# Altium schematic symbol library LED_MATRIX_8X16_MONO_R1.SchLib: 10 symbols
Pins are listed as number, name and electrical type; pins without a type are passive.

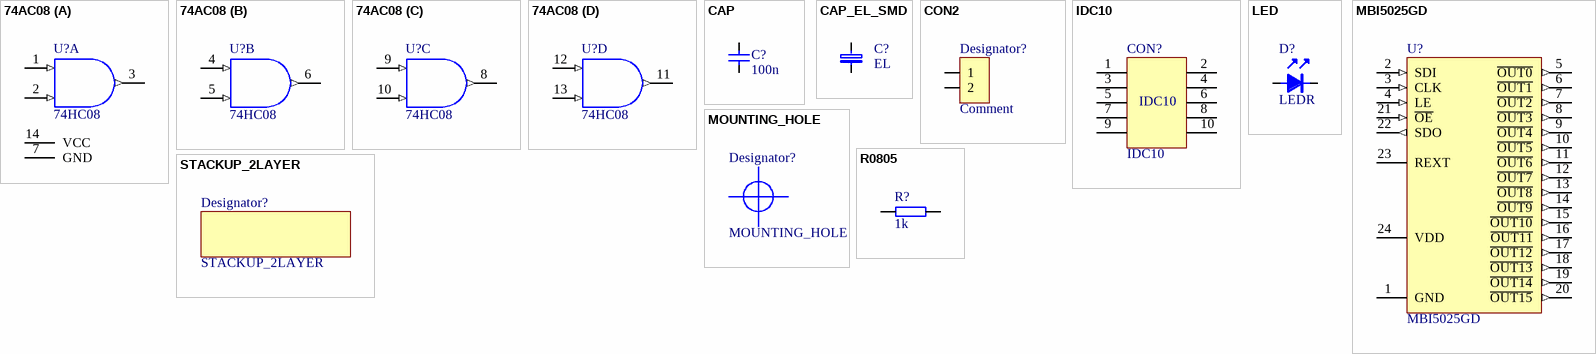
[diagram p0: symbols 74AC08 to STACKUP_2LAYER]

## 74AC08
designator U?, comment 74HC08
Quadruple 2-Input Positive-AND Gate
footprint SO14
footprint SO-14 (Footprint not found)
part A pins: 1 A (in), 2 B (in), 3 Y (out), 7 GND (power), 14 VCC (power)
part B pins: 4 A (in), 5 B (in), 6 Y (out)
part C pins: 8 Y (out), 9 A (in), 10 B (in)
part D pins: 11 Y (out), 12 A (in), 13 B (in)
2 alternate drawings of the same symbol

## CAP
designator C?, comment 100n
footprint 1206
footprint 0805
footprint 0603
footprint 0402
pins: 1, 2

## CAP_EL_SMD
designator C?, comment EL
KONDENSATOR ELEKTROLITYCZNY SMD
footprint CAP_POL_R3.5MM
pins: 1, 2
2 alternate drawings of the same symbol

## CON2
designator Designator?, comment Comment
Connector
footprint SIP2
footprint WAGO2X2-5
pins: 1, 2

## IDC10
designator CON?
footprint IDC10
pins: 1, 2, 3, 4, 5, 6, 7, 8, 9, 10

## LED
designator D?, comment LEDR
footprint 1206D
footprint 0805D
footprint LED_MTX
pins: 1, 2

## MBI5025GD
designator U?
16-channel Constant Current LED Sink Driver
footprint SOP24
pins: 1 GND (power), 2 SDI (in), 3 CLK (in), 4 LE (in), 5 ~{OUT0} (out), 6 ~{OUT1} (out), 7 ~{OUT2} (out), 8 ~{OUT3} (out), 9 ~{OUT4} (out), 10 ~{OUT5} (out), 11 ~{OUT6} (out), 12 ~{OUT7} (out), 13 ~{OUT8} (out), 14 ~{OUT9} (out), 15 ~{OUT10} (out), 16 ~{OUT11} (out), 17 ~{OUT12} (out), 18 ~{OUT13} (out), 19 ~{OUT14} (out), 20 ~{OUT15} (out), 21 ~{OE} (in), 22 SDO (out), 23 REXT, 24 VDD (power)

## MOUNTING_HOLE
designator Designator?
Mounting Hole
footprint MH_3.3-2L
footprint MH_3.2-2L
footprint MH_3.2
2 alternate drawings of the same symbol

## R0805
designator R?, comment 1k
footprint 0805
footprint 1206
pins: 1, 2

## STACKUP_2LAYER
designator Designator?
STACKUP 2 LAYER
footprint STACKUP_2LAYER
2 alternate drawings of the same symbol